# EAGLE library part PE4302 (library DigitalIC)
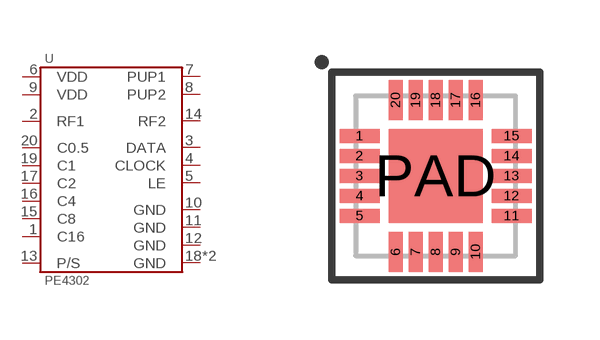
[diagram p0: symbol with the pads of QFN-20-4MM; footprint QFN-20-4MM]

Designator prefix U

## PE4302  [QFN-20-4MM]
1  C16
2  RF1
3  DATA
4  CLOCK
5  LE
6  VDD
7  PUP1
8  PUP2
9  VDD
10  GND
11  GND
12  GND
13  P/S
14  RF2
15  C8
16  C4
17  C2
18  GND
19  C1
20  C0.5
PAD  GND

## Footprint QFN-20-4MM (pad centres in mm)
smd 1 x 0.35: 1 -1.9,1; 2 -1.9,0.5; 3 -1.9,0; 4 -1.9,-0.5; 5 -1.9,-1; 11 1.9,-1; 12 1.9,-0.5; 13 1.9,0; 14 1.9,0.5; 15 1.9,1
smd 0.35 x 1: 6 -1,-1.9; 7 -0.5,-1.9; 8 0,-1.9; 9 0.5,-1.9; 10 1,-1.9; 16 1,1.9; 17 0.5,1.9; 18 0,1.9; 19 -0.5,1.9; 20 -1,1.9
smd 2.35 x 2.35: PAD 0,0